# Altium footprint library fiber-optic-siemens.PCBLIB: 3 footprints
Each footprint in its own frame and in the unit in brackets; x right, y up, seen from the top. Pads: shape width x height; smd on the part's side, far side on the other; paste and mask are expansions set on the pad; w line width, h text height; cw(c..) or ccw(c..) is an arc to the next point about the centre after c.
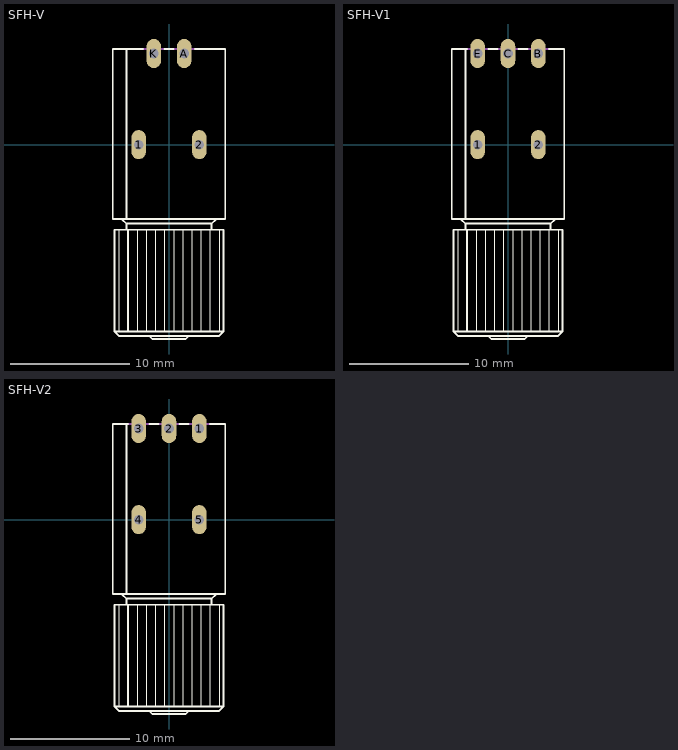
[diagram p0: the footprints below, top view; thin cyan lines are the x and y axes]

## SFH-V [mil]
pads (4):
  oval 48x96 hole 32: 1(-100,0) 2(100,0) A(50,300) K(-50,300)
Top Overlay:
  lines w2: -165,-615 -165,-280 ; -105,-615 -105,-280 ; -75,-615 -75,-280 ; -45,-615 -45,-280 ; -15,-615 -15,-280 ; 15,-615 15,-280 ; 45,-615 45,-280 ; 75,-615 75,-280 ; 105,-615 105,-280 ; 135,-615 135,-280 ; 165,-615 165,-280
  lines w6: -85,315 -140,315 ; -15,315 15,315 ; 85,315 185,315 185,-245 155,-245 ; -180,-615 -165,-630 -65,-630 ; -180,-615 -180,-280 -165,-280 -140,-280 ; -180,-615 -165,-615 -135,-615 ; -155,-245 -185,-245 -185,315 -140,315 ; -155,-245 -140,-260 ; -155,-245 -140,-245 ; -140,-280 -140,-260 ; -140,-280 -135,-280 ; -140,-260 140,-260 ; -140,-245 -140,315 ; -140,-245 155,-245 ; -135,-615 -135,-280 ; -135,-615 -105,-615 -75,-615 -45,-615 -15,-615 15,-615 45,-615 75,-615 105,-615 135,-615 165,-615 180,-615 ; -135,-280 -105,-280 -75,-280 -45,-280 -15,-280 15,-280 45,-280 75,-280 105,-280 135,-280 140,-280 ; -65,-630 -55,-640 55,-640 65,-630 ; -65,-630 65,-630 ; 65,-630 165,-630 180,-615 ; 140,-280 165,-280 180,-280 180,-615 ; 140,-280 140,-260 ; 140,-260 155,-245
Mechanical 16:
  lines w6: -85,315 -15,315 ; 15,315 85,315

## SFH-V1 [mil]
pads (5):
  oval 48x96 hole 32: 1(-100,0) 2(100,0) B(100,300) C(0,300) E(-100,300)
Top Overlay:
  lines w2: -165,-615 -165,-280 ; -105,-615 -105,-280 ; -75,-615 -75,-280 ; -45,-615 -45,-280 ; -15,-615 -15,-280 ; 15,-615 15,-280 ; 45,-615 45,-280 ; 75,-615 75,-280 ; 105,-615 105,-280 ; 135,-615 135,-280 ; 165,-615 165,-280
  lines w6: -135,315 -140,315 ; -65,315 -35,315 ; 35,315 65,315 ; 135,315 185,315 185,-245 155,-245 ; -180,-615 -165,-630 -65,-630 ; -180,-615 -180,-280 -165,-280 -140,-280 ; -180,-615 -165,-615 -135,-615 ; -155,-245 -185,-245 -185,315 -140,315 ; -155,-245 -140,-260 ; -155,-245 -140,-245 ; -140,-280 -140,-260 ; -140,-280 -135,-280 ; -140,-260 140,-260 ; -140,-245 -140,315 ; -140,-245 155,-245 ; -135,-615 -135,-280 ; -135,-615 -105,-615 -75,-615 -45,-615 -15,-615 15,-615 45,-615 75,-615 105,-615 135,-615 165,-615 180,-615 ; -135,-280 -105,-280 -75,-280 -45,-280 -15,-280 15,-280 45,-280 75,-280 105,-280 135,-280 140,-280 ; -65,-630 -55,-640 55,-640 65,-630 ; -65,-630 65,-630 ; 65,-630 165,-630 180,-615 ; 140,-280 165,-280 180,-280 180,-615 ; 140,-280 140,-260 ; 140,-260 155,-245
Mechanical 16:
  lines w6: -135,315 -65,315 ; -35,315 35,315 ; 65,315 135,315

## SFH-V2 [mil]
pads (5):
  oval 48x96 hole 32: 1(100,300) 2(0,300) 3(-100,300) 4(-100,0) 5(100,0)
Top Overlay:
  lines w2: -165,-615 -165,-280 ; -105,-615 -105,-280 ; -75,-615 -75,-280 ; -45,-615 -45,-280 ; -15,-615 -15,-280 ; 15,-615 15,-280 ; 45,-615 45,-280 ; 75,-615 75,-280 ; 105,-615 105,-280 ; 135,-615 135,-280 ; 165,-615 165,-280
  lines w6: -135,315 -140,315 ; -65,315 -35,315 ; 35,315 65,315 ; 135,315 185,315 185,-245 155,-245 ; -180,-615 -165,-630 -65,-630 ; -180,-615 -180,-280 -165,-280 -140,-280 ; -180,-615 -165,-615 -135,-615 ; -155,-245 -185,-245 -185,315 -140,315 ; -155,-245 -140,-260 ; -155,-245 -140,-245 ; -140,-280 -140,-260 ; -140,-280 -135,-280 ; -140,-260 140,-260 ; -140,-245 -140,315 ; -140,-245 155,-245 ; -135,-615 -135,-280 ; -135,-615 -105,-615 -75,-615 -45,-615 -15,-615 15,-615 45,-615 75,-615 105,-615 135,-615 165,-615 180,-615 ; -135,-280 -105,-280 -75,-280 -45,-280 -15,-280 15,-280 45,-280 75,-280 105,-280 135,-280 140,-280 ; -65,-630 -55,-640 55,-640 65,-630 ; -65,-630 65,-630 ; 65,-630 165,-630 180,-615 ; 140,-280 165,-280 180,-280 180,-615 ; 140,-280 140,-260 ; 140,-260 155,-245
Mechanical 16:
  lines w6: -135,315 -65,315 ; -35,315 35,315 ; 65,315 135,315
  text "VCC" at 125,75 h77.5
  text "GND" at 25,75 h77.5
  text "DATA" at -75,75 h77.5